# Altium footprint library Inductors.PcbLib: 24 footprints (part 1 of 2)
Each footprint in its own frame and in the unit in brackets; x right, y up, seen from the top. Pads: shape width x height; smd on the part's side, far side on the other; paste and mask are expansions set on the pad; w line width, h text height; cw(c..) or ccw(c..) is an arc to the next point about the centre after c.
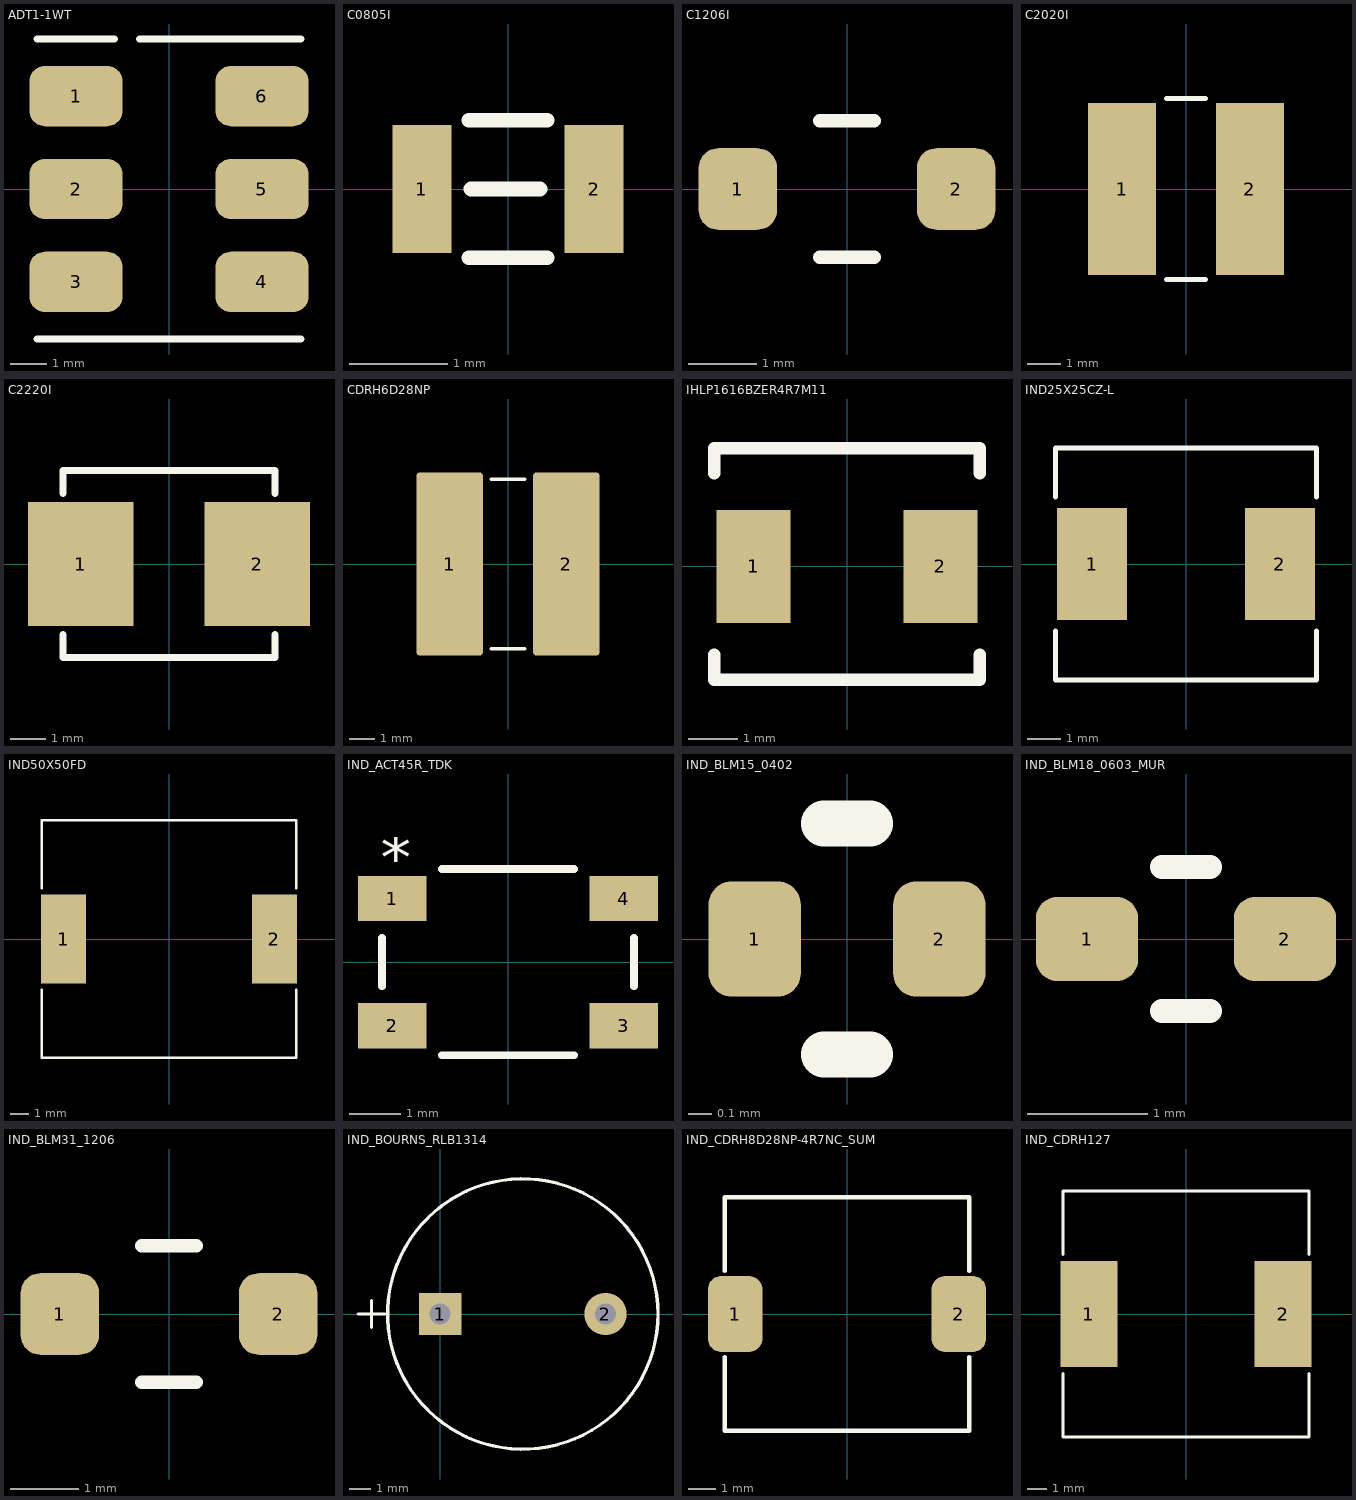
[diagram p0: the footprints below, top view; thin cyan lines are the x and y axes]

## ADT1-1WT [mm]
pads (6):
  rrect50% 2.54x1.65 smd: 1(-2.54,2.54) 2(-2.54,0) 3(-2.54,-2.54) 4(2.54,-2.54) 5(2.54,0) 6(2.54,2.54)
Top Overlay:
  lines w0.2: -3.6,-4.1 3.6,-4.1 ; -3.6,4.1 -1.5,4.1 ; -0.8,4.1 3.6,4.1
3D body "CD542_MNC.step": height 2.85, standoff 0, extent -3.581,-4 3.581,4

## C0805I [mm]
pads (2):
  rect 0.6x1.3 smd: 1(-0.875,0) 2(0.875,0)
Top Overlay:
  lines w0.15: -0.4,-0.7 0.4,-0.7 ; -0.4,0.7 0.4,0.7 ; -0.375,0 0.325,0
3D body: height 0.8, standoff 0, extent 0.4,-0.6 1,0.6
3D body: height 0.8, standoff 0, extent -0.4,-0.6 0.4,0.6
3D body: height 0.8, standoff 0, extent -1,-0.6 -0.4,0.6

## C1206I [mm]
pads (2):
  rrect50% 1.15x1.2 smd: 1(-1.6,0) 2(1.6,0)
Top Overlay:
  lines w0.2: -0.4,-1 0.4,-1 ; -0.4,1 0.4,1
3D body "LQM31PN4R7M00L.STEP": height 0.95, standoff 0, extent -1.6,-0.8 1.6,0.8

## C2020I [mil]
pads (2):
  rect 81x205 smd paste+0 mask+0: 1(-76,0) 2(76,0)
Top Overlay:
  lines w6: -23.39,-107.5 23.39,-107.5 ; -23.39,107.5 23.39,107.5
3D body "IND_LQH5BPN1R5NT0L_MUR.step": height 87.01, standoff 0, extent -102.51,-102.51 102.53,102.53

## C2220I [mm]
pads (2):
  rect 3x3.5 smd paste+0 mask+0: 1(-2.5,0) 2(2.5,0)
Top Overlay:
  lines w0.2: -3,-2 -3,-2.65 3,-2.65 3,-2 ; -3,2 -3,2.65 3,2.65 3,2
3D body "LQH55DN221M03L.STEP": height 5, standoff 0, extent -2.85,-2.5 2.85,2.5

## CDRH6D28NP [mm]
pads (2):
  rrect10% 2.65x7.3 smd: 1(-2.325,0) 2(2.325,0)
Top Overlay:
  lines w0.152: -0.671,-3.378 0.671,-3.378 ; -0.671,3.378 0.671,3.378
3D body "IND_CDRH6D28NP-100NC_SUM.step": height 3, standoff 0, extent -3.251,-3.254 3.251,3.254

## IHLP1616BZER4R7M11 [mm]
pads (2):
  rect 1.5x2.3 smd: 1(-1.9,0) 2(1.9,0)
Top Overlay:
  lines w0.254: -2.7,-1.8 -2.7,-2.3 2.7,-2.3 2.7,-1.8 ; -2.7,1.9 -2.7,2.4 2.7,2.4 2.7,1.9
3D body "IHLP1616BZ.STEP": height 1.95, standoff 0.03, extent -2.217,-2.03 2.217,2.1

## IND25X25CZ-L [mil]
pads (2):
  rect 83x133 smd paste+0 mask+0: 1(-111.5,0) 2(111.5,0)
Top Overlay:
  lines w6: -155,-79.45 -155,-137.5 155,-137.5 155,-79.45 ; -155,79.45 -155,137.5 155,137.5 155,79.45
3D body "IHLP2525CZ.step": height 117.52, standoff 4.02, extent -139.82,-131.3 138.78,131.3

## IND50X50FD [mil]
pads (2):
  rect 98x195 smd: 1(-229.5,0) 2(229.5,0)
Top Overlay:
  lines w6: -277.5,-110.6 -277.5,-259 277.5,-259 277.5,-110.6 ; -277.5,110.6 -277.5,259 277.5,259 277.5,110.6
3D body "IND50X50FD.step": height 255.98, standoff 0, extent -272.51,-254.01 272.52,254.02

## IND_ACT45R_TDK [mm]
pads (4):
  rect 1.346x0.889 smd paste-0.445 mask+0: 1(-2.275,1.25) 2(-2.275,-1.25) 3(2.275,-1.25) 4(2.275,1.25)
Top Overlay:
  lines w0.152: -2.476,-0.473 -2.476,0.473 ; -1.297,-1.829 1.297,-1.829 ; -1.297,1.829 1.297,1.829 ; 2.476,-0.473 2.476,0.473
  text "*" at -2.5,1.331 h1.5
3D body "IND_ACT45R_TDK.step": height 3, standoff 0, extent -2.35,-1.702 2.35,1.702

## IND_BLM15_0402 [mm]
pads (2):
  rrect50% 0.4x0.5 smd: 1(-0.4,0) 2(0.4,0)
Top Overlay:
  lines w0.2: -0.1,-0.5 0.1,-0.5 ; -0.1,0.5 0.1,0.5
3D body "BLM15BB750SN1D.STEP": height 0.55, standoff 0, extent -0.5,-0.25 0.5,0.25

## IND_BLM18_0603_MUR [mm]
pads (2):
  rrect50% 0.85x0.7 smd: 1(-0.825,0) 2(0.825,0)
Top Overlay:
  lines w0.2: -0.2,-0.6 0.2,-0.6 ; -0.2,0.6 0.2,0.6
3D body "IND_BLM18_0603_MUR.step": height 0.94, standoff 0, extent -0.876,-0.47 0.876,0.47

## IND_BLM31_1206 [mm]
pads (2):
  rrect50% 1.15x1.2 smd: 1(-1.6,0) 2(1.6,0)
Top Overlay:
  lines w0.2: -0.4,-1 0.4,-1 ; -0.4,1 0.4,1
3D body "BLM31PG500SH1L.STEP": height 1.3, standoff 0, extent -1.6,-0.8 1.6,0.8

## IND_BOURNS_RLB1314 [mm]
pads (2):
  rect 2x2 hole 1 mask+0: 1(0,0)
  round 2 hole 1 mask+0: 2(7.798,0)
Top Overlay:
  circle w0.152: c3.899,0 r6.375
  lines w0.152: -3.873,0 -2.603,0 ; -3.238,-0.635 -3.238,0.635
3D body "IND_BOURNS_RLB1314.step": height 13, standoff -4.9, extent -2.365,-6.245 10.147,6.245

## IND_CDRH8D28NP-4R7NC_SUM [mm]
pads (2):
  rrect50% 2x2.8 smd: 1(-4.1,0) 2(4.1,0)
Top Overlay:
  lines w0.152: -4.483,-1.577 -4.483,-4.28 4.483,-4.28 4.483,-1.577 ; -4.483,1.577 -4.483,4.28 4.483,4.28 4.483,1.577
3D body "IND_CDRH8D28NP-680NC_SUM.step": height 3, standoff 0, extent -4.356,-4.153 4.356,4.153

## IND_CDRH127 [mil]
pads (2):
  rect 114x213 smd paste+0 mask+0: 1(-195,0) 2(195,0)
Top Overlay:
  lines w6: -247,-119.6 -247,-247 247,-247 247,-119.6 ; -247,119.6 -247,247 247,247 247,119.6
3D body "IND_CDRH127LDNP-470MC_SUM.step": height 315, standoff 0, extent -242,-242.08 242.01,242.09